# EAGLE library part SN74AHC00 (library HyTechDevices)
TI SN74AHC00 Quadruple 2-input NAND
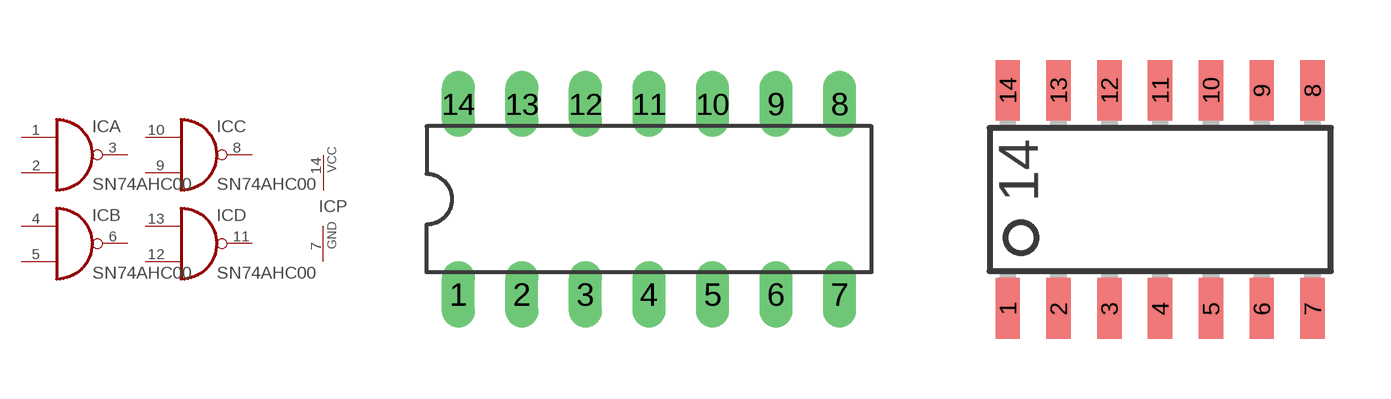
[diagram p61: symbol with the pads of DIL14; footprints DIL14, SOIC-14]

Designator prefix IC; gates A=NAND_2 B=NAND_2 C=NAND_2 D=NAND_2 P=PWRN

## SN74AHC00  [DIL14]
1  A:I0  in
2  A:I1  in
3  A:O  out
4  B:I0  in
5  B:I1  in
6  B:O  out
7  P:GND  pwr
8  C:O  out
9  C:I1  in
10  C:I0  in
11  D:O  out
12  D:I1  in
13  D:I0  in
14  P:VCC  pwr

## SN74AHC00D  [SOIC-14]
Pads as for DIL14

## Footprint DIL14 (pad centres in mm)
Dual In Line Package
drill 0.813 long: 1 -7.62,-3.81; 2 -5.08,-3.81; 3 -2.54,-3.81; 4 0,-3.81; 5 2.54,-3.81; 6 5.08,-3.81; 7 7.62,-3.81; 8 7.62,3.81; 9 5.08,3.81; 10 2.54,3.81; 11 0,3.81; 12 -2.54,3.81; 13 -5.08,3.81; 14 -7.62,3.81

## Footprint SOIC-14 (pad centres in mm)
Small Outline Integrated Circuit
smd 0.61 x 1.524: 1 -4.445,-2.794; 2 -3.175,-2.794; 3 -1.905,-2.794; 4 -0.635,-2.794; 5 0.635,-2.794; 6 1.905,-2.794; 7 3.175,-2.794; 8 3.175,2.667; 9 1.905,2.667; 10 0.635,2.667; 11 -0.635,2.667; 12 -1.905,2.667; 13 -3.175,2.667; 14 -4.445,2.667